# Altium footprint library Crystals.PcbLib: 3 footprints
Each footprint in its own frame and in the unit in brackets; x right, y up, seen from the top. Pads: shape width x height; smd on the part's side, far side on the other; paste and mask are expansions set on the pad; w line width, h text height; cw(c..) or ccw(c..) is an arc to the next point about the centre after c.
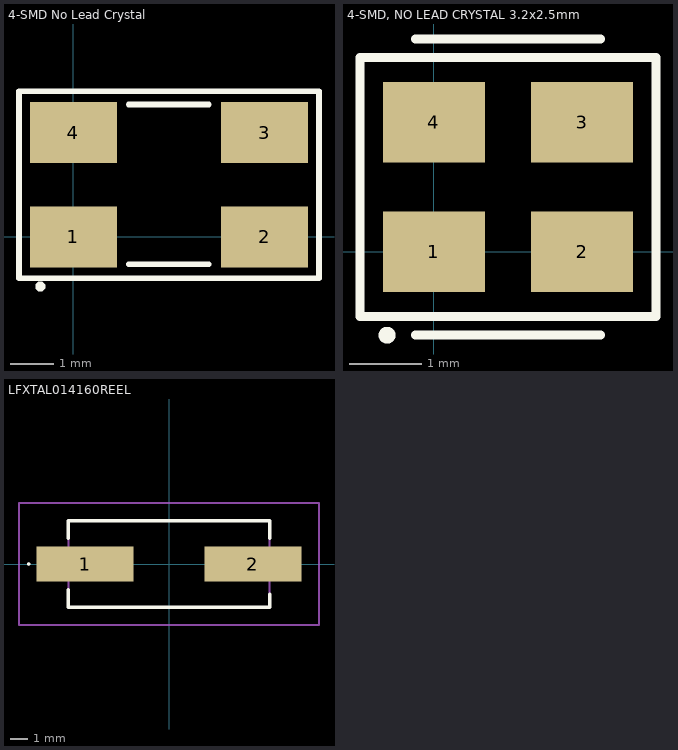
[diagram p0: the footprints below, top view; thin cyan lines are the x and y axes]

## 4-SMD No Lead Crystal [mm] "6x3.5mm"
pads (4):
  rect 2x1.4 smd: 1(0,0) 2(4.4,0) 3(4.4,2.4) 4(0,2.4)
Top Overlay:
  circle w0.127: c-0.762,-1.143 r0.052
  lines w0.127: 1.27,-0.635 3.116,-0.635 ; 1.27,3.048 3.116,3.048 ; -1.254,-0.953 5.654,-0.953 5.654,3.35 -1.254,3.35 -1.254,-0.953
3D body "ECS-120-18-23B-JTM-TR.STEP": height 1.11, standoff 0.01, extent -0.743,-0.507 5.257,2.993

## 4-SMD, NO LEAD CRYSTAL 3.2x2.5mm [mm]
pads (4):
  rrect0% 1.4x1.1 smd: 1(0,0) 2(2.032,0) 3(2.032,1.778) 4(0,1.778)
Top Overlay:
  circle w0.127: c-0.644,-1.144 r0.052
  lines w0.127: -0.254,-1.143 2.286,-1.143 ; -0.254,2.921 2.286,2.921 ; -1.016,-0.889 3.048,-0.889 3.048,2.667 -1.016,2.667 -1.016,-0.889
3D body "User Library-Crystal_ECX-32.STEP": height 0.82, standoff 0, extent -0.584,-0.361 2.616,2.139

## LFXTAL014160REEL [mm]
pads (2):
  rect 5.5x2 smd: 1(-4.75,0) 2(4.75,0)
Top Overlay:
  lines w0.1: -8,0 cw(c-7.95,0) -7.9,0 cw(c-7.95,0) -8,0
  lines w0.2: -5.7,-1.47 -5.7,-2.45 5.7,-2.45 5.7,-1.715 ; -5.7,1.47 -5.7,2.45 5.7,2.45 5.7,1.47
Mechanical 15:
  lines w0.1: -5.7,-2.45 -5.7,2.45 5.7,2.45 5.7,-2.45 -5.7,-2.45
Mechanical 20:
  lines w0.1: -8.5,-3.45 -8.5,3.45 8.5,3.45 8.5,-3.45 -8.5,-3.45
3D body "LFXTAL014160REEL.stp": height 5.8, standoff -4.65, extent -10,-3.376 10,3.376